# EAGLE library part SATA (library josh)
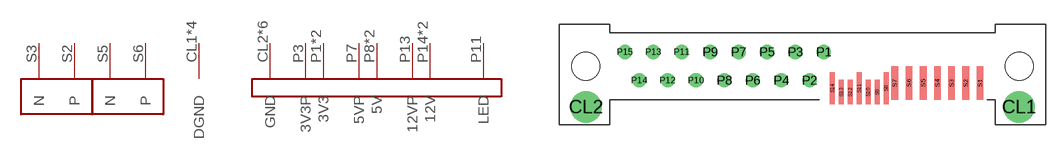
[diagram p2: symbol with the pads of 10120818-001C-TRLF; footprint 10120818-001C-TRLF]

Designator prefix -; gates TX=DIFF_PAIR RX=DIFF_PAIR DGND=DGND PWR=SATA_PWR

## SATA  [10120818-001C-TRLF]
CL1  DGND:DGND  pwr
CL2  PWR:GND  pwr
P1  PWR:3V3  nc
P2  PWR:3V3  nc
P3  PWR:3V3P
P4  PWR:GND  pwr
P5  PWR:GND  pwr
P6  PWR:GND  pwr
P7  PWR:5VP
P8  PWR:5V  pwr
P9  PWR:5V  pwr
P10  PWR:GND  pwr
P11  PWR:LED
P12  PWR:GND  pwr
P13  PWR:12VP
P14  PWR:12V  pwr
P15  PWR:12V  pwr
S1  DGND:DGND  pwr
S2  TX:P
S3  TX:N
S4  DGND:DGND  pwr
S5  RX:N
S6  RX:P
S7  DGND:DGND  pwr

## Footprint 10120818-001C-TRLF (pad centres in mm)
drill 1.9: CL1 19.365,-3.65; CL2 -19.365,-3.65
drill 0.75 pad 1.13: P1 1.905,1.27; P2 0.635,-1.27; P3 -0.635,1.27; P4 -1.905,-1.27; P5 -3.175,1.27; P6 -4.445,-1.27; P7 -5.715,1.27; P8 -6.985,-1.27; P9 -8.255,1.27; P10 -9.525,-1.27; P11 -10.795,1.27; P12 -12.065,-1.27; P13 -13.335,1.27; P14 -14.605,-1.27; P15 -15.875,1.27
smd 0.6 x 3: S1 15.875,-1.5; S2 14.605,-1.5; S3 13.335,-1.5; S4 12.065,-1.5; S5 10.795,-1.5; S6 9.525,-1.5; S7 8.255,-1.5
smd 0.45 x 2.88: S8 7.48,-1.96; S11 5.08,-1.96; S14 2.68,-1.96
smd 0.45 x 2.18: S9 6.68,-2.31; S10 5.88,-2.31; S12 4.28,-2.31; S13 3.48,-2.31
hole 2.5 at -19.365,0
hole 2.5 at 19.365,0